# Altium integrated library Actel RTAX-DSP.IntLib: 8 symbols (part 2 of 2)
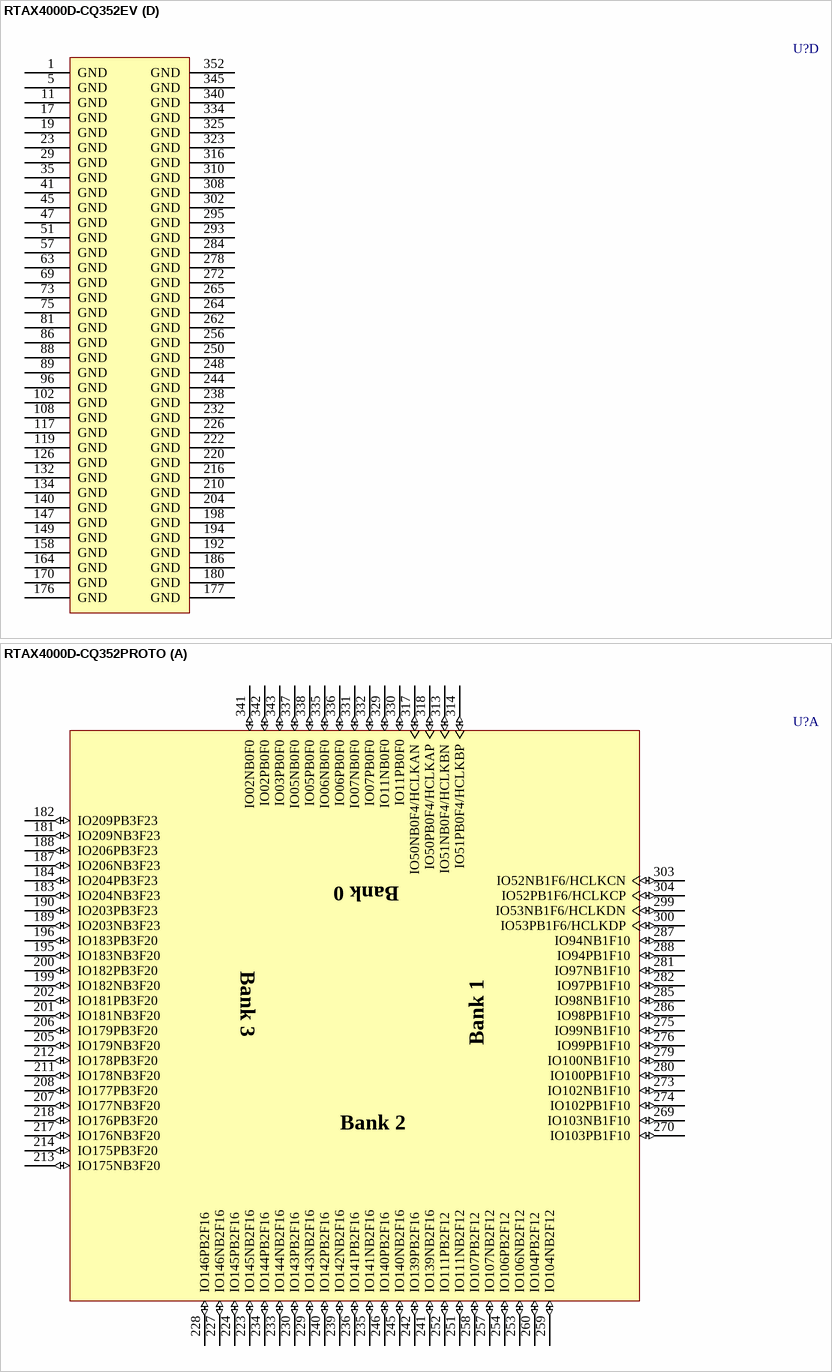
[diagram p24: symbols RTAX4000D-CQ352EV to RTAX4000D-CQ352PROTO]

## RTAX4000D-CQ352EV
designator U?
RTAX-DSP RadTolerant FPGA, 4 Million Equivalent System Gates, 352-Pin CQFP, Standard Speed Grade, Class V; Published: 11-Dec-2009; DatasheetVersion: v0.2, Nov-2009; PackageVersion: ver11.2, Nov-2009; PackageReference: CQ352; Publisher: Altium Limited; PackageDescription: 352-Pin Ceramic Quad Flat Pack (CQFP), Cavity Up without Heat Sink; Code_JEDEC: MO-134-AE; ComponentLink1Description: RTAX-S/SL RadTolerant Datasheet; ComponentLink1URL: http://www.actel.com/documents/RTAXS_DS.pdf; ComponentLink2Description: Package Mechanical Drawings; ComponentLink2URL: http://www.actel.com/documents/PckgMechDrwngs.pdf; ComponentLink3Description: RTAX-DSP Documents; ComponentLink3URL: http://www.actel.com/products/milaero/rtaxdsp/docs.aspx; ComponentLink4Description: Actel.com Home; ComponentLink4URL: http://www.actel.com/
footprint CQ352_N (CQFP, 352-Leads, Body 48x48mm; Pitch 0.5mm, Gullwing Leadform, IPC Medium Density)
footprint CQ352_L (CQFP, 352-Leads, Body 48x48mm; Pitch 0.5mm, Gullwing Leadform, IPC High Density)
footprint CQ352_M (CQFP, 352-Leads, Body 48x48mm; Pitch 0.5mm, Gullwing Leadform, IPC Low Density)
part A pins: 181 IO209NB3F23 (io), 182 IO209PB3F23 (io), 183 IO204NB3F23 (io), 184 IO204PB3F23 (io), 187 IO206NB3F23 (io), 188 IO206PB3F23 (io), 189 IO203NB3F23 (io), 190 IO203PB3F23 (io), 195 IO183NB3F20 (io), 196 IO183PB3F20 (io), 199 IO182NB3F20 (io), 200 IO182PB3F20 (io), 201 IO181NB3F20 (io), 202 IO181PB3F20 (io), 205 IO179NB3F20 (io), 206 IO179PB3F20 (io), 207 IO177NB3F20 (io), 208 IO177PB3F20 (io), 211 IO178NB3F20 (io), 212 IO178PB3F20 (io), 213 IO175NB3F20 (io), 214 IO175PB3F20 (io), 217 IO176NB3F20 (io), 218 IO176PB3F20 (io), 223 IO145NB2F16 (io), 224 IO145PB2F16 (io), 227 IO146NB2F16 (io), 228 IO146PB2F16 (io), 229 IO143NB2F16 (io), 230 IO143PB2F16 (io), 233 IO144NB2F16 (io), 234 IO144PB2F16 (io), 235 IO141NB2F16 (io), 236 IO141PB2F16 (io), 239 IO142NB2F16 (io), 240 IO142PB2F16 (io), 241 IO139NB2F16 (io), 242 IO139PB2F16 (io), 245 IO140NB2F16 (io), 246 IO140PB2F16 (io), 251 IO111NB2F12 (io), 252 IO111PB2F12 (io), 253 IO106NB2F12 (io), 254 IO106PB2F12 (io), 257 IO107NB2F12 (io), 258 IO107PB2F12 (io), 259 IO104NB2F12 (io), 260 IO104PB2F12 (io), 269 IO103NB1F10 (io), 270 IO103PB1F10 (io), 273 IO102NB1F10 (io), 274 IO102PB1F10 (io), 275 IO99NB1F10 (io), 276 IO99PB1F10 (io), 279 IO100NB1F10 (io), 280 IO100PB1F10 (io), 281 IO97NB1F10 (io), 282 IO97PB1F10 (io), 285 IO98NB1F10 (io), 286 IO98PB1F10 (io), 287 IO94NB1F10 (io), 288 IO94PB1F10 (io), 299 IO53NB1F6/HCLKDN (io), 300 IO53PB1F6/HCLKDP (io), 303 IO52NB1F6/HCLKCN (io), 304 IO52PB1F6/HCLKCP (io), 313 IO51NB0F4/HCLKBN (io), 314 IO51PB0F4/HCLKBP (io), 317 IO50NB0F4/HCLKAN (io), 318 IO50PB0F4/HCLKAP (io), 329 IO11NB0F0 (io), 330 IO11PB0F0 (io), 331 IO07NB0F0 (io), 332 IO07PB0F0 (io), 335 IO06NB0F0 (io), 336 IO06PB0F0 (io), 337 IO05NB0F0 (io), 338 IO05PB0F0 (io), 341 IO02NB0F0 (io), 342 IO02PB0F0 (io), 343 IO03PB0F0 (io)
part B pins: 6 IO419NB7F47 (io), 7 IO419PB7F47 (io), 8 IO414NB7F47 (io), 9 IO414PB7F47 (io), 12 IO416NB7F47 (io), 13 IO416PB7F47 (io), 14 IO413NB7F47 (io), 15 IO413PB7F47 (io), 20 IO393NB7F44 (io), 21 IO393PB7F44 (io), 24 IO392NB7F44 (io), 25 IO392PB7F44 (io), 26 IO391NB7F44 (io), 27 IO391PB7F44 (io), 30 IO389NB7F44 (io), 31 IO389PB7F44 (io), 32 IO388NB7F44 (io), 33 IO388PB7F44 (io), 36 IO387NB7F44 (io), 37 IO387PB7F44 (io), 38 IO386NB7F44 (io), 39 IO386PB7F44 (io), 42 IO385NB7F44 (io), 43 IO385PB7F44 (io), 48 IO355NB6F40 (io), 49 IO355PB6F40 (io), 52 IO356NB6F40 (io), 53 IO356PB6F40 (io), 54 IO353NB6F40 (io), 55 IO353PB6F40 (io), 58 IO354NB6F40 (io), 59 IO354PB6F40 (io), 60 IO351NB6F40 (io), 61 IO351PB6F40 (io), 64 IO352NB6F40 (io), 65 IO352PB6F40 (io), 66 IO349NB6F40 (io), 67 IO349PB6F40 (io), 70 IO350NB6F40 (io), 71 IO350PB6F40 (io), 76 IO319NB6F36 (io), 77 IO319PB6F36 (io), 78 IO317NB6F36 (io), 79 IO317PB6F36 (io), 82 IO316NB6F36 (io), 83 IO316PB6F36 (io), 84 IO314PB6F36 (io), 92 IO313NB5F34 (io), 93 IO312NB5F34 (io), 94 IO312PB5F34 (io), 97 IO309NB5F34 (io), 98 IO309PB5F34 (io), 99 IO310NB5F34 (io), 100 IO310PB5F34 (io), 103 IO307NB5F34 (io), 104 IO307PB5F34 (io), 105 IO308NB5F34 (io), 106 IO308PB5F34 (io), 109 IO305NB5F34 (io), 110 IO305PB5F34 (io), 111 IO304NB5F34 (io), 112 IO304PB5F34 (io), 123 IO263NB5F30/CLKHN (io), 124 IO263PB5F30/CLKHP (io), 127 IO262NB5F30/CLKGN (io), 128 IO262PB5F30/CLKGP (io), 137 IO261NB4F28/CLKFN (io), 138 IO261PB4F28/CLKFP (io), 141 IO260NB4F28/CLKEN (io), 142 IO260PB4F28/CLKEP (io), 153 IO219NB4F24 (io), 154 IO219PB4F24 (io), 155 IO216NB4F24 (io), 156 IO216PB4F24 (io), 159 IO217NB4F24 (io), 160 IO217PB4F24 (io), 161 IO214NB4F24 (io), 162 IO214PB4F24 (io), 165 IO215NB4F24 (io), 166 IO215PB4F24 (io), 167 IO210NB4F24 (io), 168 IO210PB4F24 (io), 171 IO213NB4F24 (io), 172 IO213PB4F24 (io), 173 IO211NB4F24 (io)
part C pins: 2 VCCDA (power), 3 VCCA (power), 4 VCCA (power), 10 VCCIB7 (power), 16 VCCDA (power), 18 VCCA (power), 22 VCCIB7 (power), 28 VCCIB7 (power), 34 VCCA (power), 40 VCCIB7 (power), 44 VCCA (power), 46 VCCDA (power), 50 VCCIB6 (power), 56 VCCA (power), 62 VCCIB6 (power), 68 VCCIB6 (power), 72 VCCA (power), 74 VCCDA (power), 80 VCCIB6 (power), 85 VCCA (power), 87 VCCA (power), 90 VCCDA (power), 91 VCCDA (power), 95 VCCIB5 (power), 101 VCCA (power), 107 VCCIB5 (power), 113 VCCDA (power), 114 VCCDA (power), 115 VCCDA (power), 116 VCCA (power), 118 VCCDA (power), 120 VCCDA (power), 121 VCCDA (power), 122 VCCDA (power), 125 VCCIB5 (power), 129 VCCA (power), 130 VCCDA (power), 131 VCCA (power), 133 VCCDA (power), 135 PRD (out), 136 PRC (out), 139 VCCIB4 (power), 143 VCCDA (power), 144 VCCDA (power), 145 VCCDA (power), 146 VCCDA (power), 148 VCCA (power), 150 VCCDA (power), 151 VCCDA (power), 152 VCCDA (power), 157 VCCIB4 (power), 163 VCCA (power), 169 VCCIB4 (power), 174 VCCDA (power), 175 VCCA (power), 178 VCCDA (power), 179 VCCA (power), 185 VCCIB3 (power), 191 VCCDA (power), 193 VCCA (power), 197 VCCIB3 (power), 203 VCCIB3 (power), 209 VCCA (power), 215 VCCIB3 (power), 219 VCCA (power), 221 VCCDA (power), 225 VCCIB2 (power), 231 VCCA (power), 237 VCCIB2 (power), 243 VCCIB2 (power), 247 VCCA (power), 249 VCCDA (power), 255 VCCIB2 (power), 261 VCCA (power), 263 VCCA (power), 266 VCCDA (power), 267 VPUMP (power), 268 VCCDA (power), 271 VCCIB1 (power), 277 VCCA (power), 283 VCCIB1 (power), 289 VCCDA (power), 290 VCCDA (power), 291 VCCDA (power), 292 VCCA (power), 294 VCCDA (power), 296 VCCDA (power), 297 VCCDA (power), 298 VCCDA (power), 301 VCCIB1 (power), 305 VCCA (power), 306 VCCDA (power), 307 VCCA (power), 309 VCCDA (power), 311 PRB (out), 312 PRA (out), 315 VCCIB0 (power), 319 VCCDA (power), 320 VCCDA (power), 321 VCCDA (power), 322 VCCDA (power), 324 VCCA (power), 326 VCCDA (power), 327 VCCDA (power), 328 VCCDA (power), 333 VCCIB0 (power), 339 VCCA (power), 344 VCCIB0 (power), 346 VCCDA (power), 347 TDO (hiz), 348 TDI (in), 349 TCK (in), 350 TMS (in), 351 ~{TRST} (in)
part D pins: 1 GND (power), 5 GND (power), 11 GND (power), 17 GND (power), 19 GND (power), 23 GND (power), 29 GND (power), 35 GND (power), 41 GND (power), 45 GND (power), 47 GND (power), 51 GND (power), 57 GND (power), 63 GND (power), 69 GND (power), 73 GND (power), 75 GND (power), 81 GND (power), 86 GND (power), 88 GND (power), 89 GND (power), 96 GND (power), 102 GND (power), 108 GND (power), 117 GND (power), 119 GND (power), 126 GND (power), 132 GND (power), 134 GND (power), 140 GND (power), 147 GND (power), 149 GND (power), 158 GND (power), 164 GND (power), 170 GND (power), 176 GND (power), 177 GND (power), 180 GND (power), 186 GND (power), 192 GND (power), 194 GND (power), 198 GND (power), 204 GND (power), 210 GND (power), 216 GND (power), 220 GND (power), 222 GND (power), 226 GND (power), 232 GND (power), 238 GND (power), 244 GND (power), 248 GND (power), 250 GND (power), 256 GND (power), 262 GND (power), 264 GND (power), 265 GND (power), 272 GND (power), 278 GND (power), 284 GND (power), 293 GND (power), 295 GND (power), 302 GND (power), 308 GND (power), 310 GND (power), 316 GND (power), 323 GND (power), 325 GND (power), 334 GND (power), 340 GND (power), 345 GND (power), 352 GND (power)
part A text: Bank 0; Bank 3; Bank 1; Bank 2
part B text: Bank 4; Bank 7; Bank 5; Bank 6

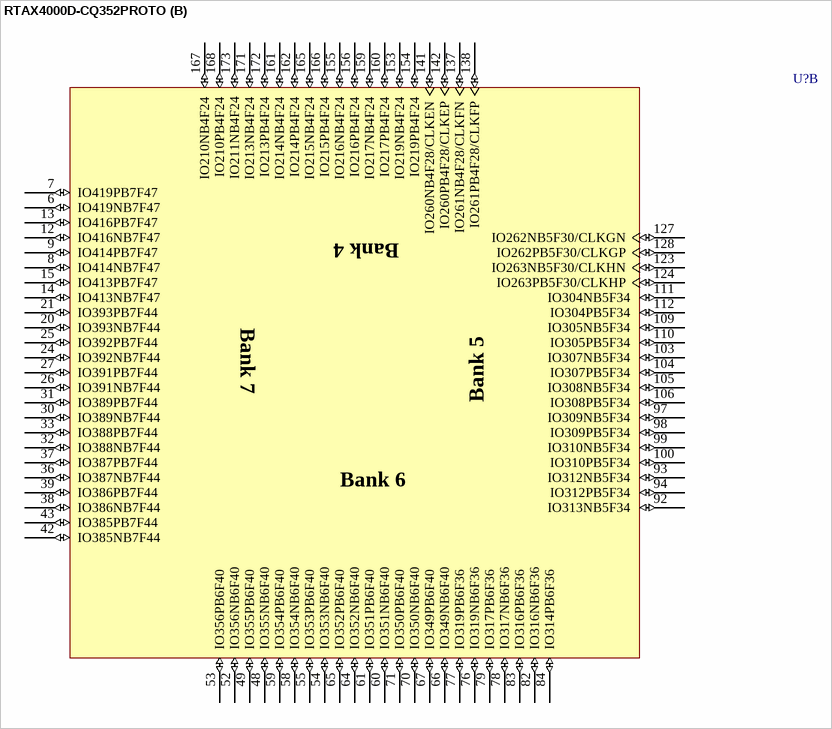
[diagram p21: symbol RTAX4000D-CQ352PROTO]

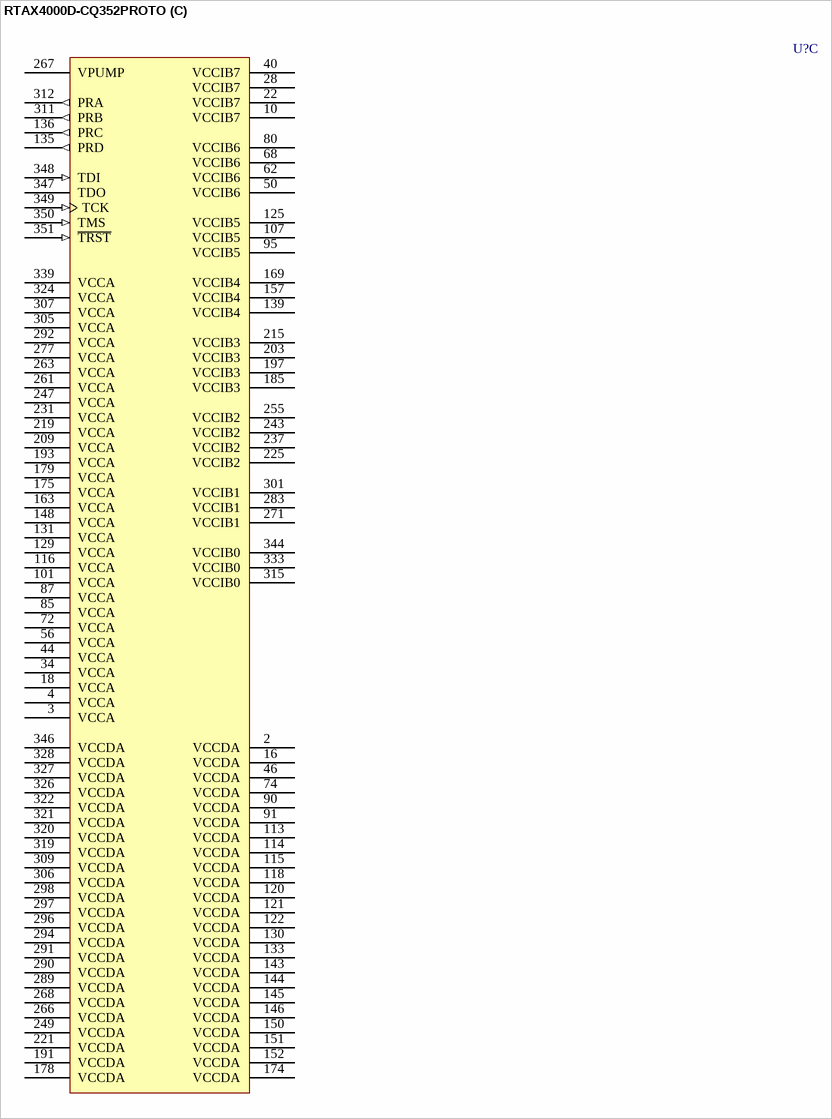
[diagram p22: symbol RTAX4000D-CQ352PROTO]

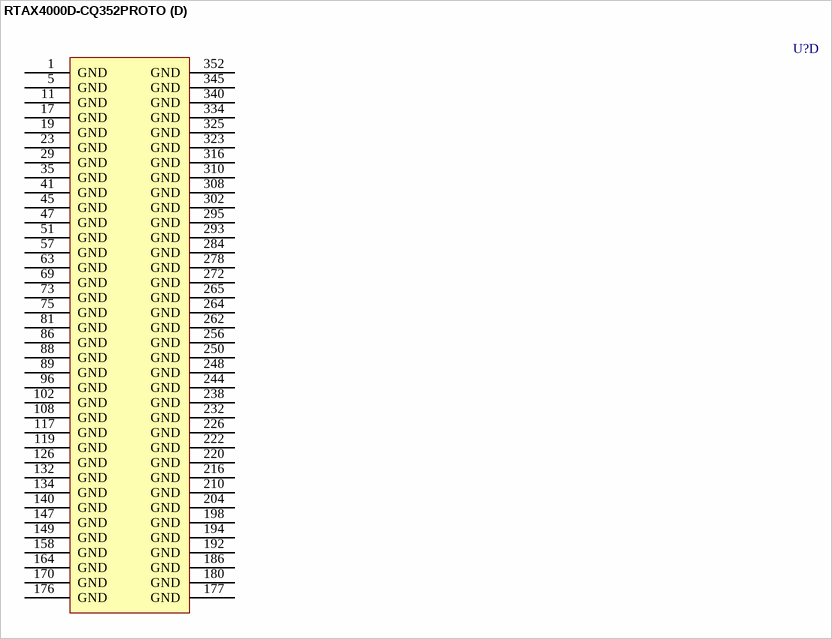
[diagram p23: symbol RTAX4000D-CQ352PROTO]

## RTAX4000D-CQ352PROTO
designator U?
RTAX-DSP RadTolerant FPGA, 4 Million Equivalent System Gates, 352-Pin CQFP, Standard Speed Grade, Prototype Unit; Published: 11-Dec-2009; DatasheetVersion: v0.2, Nov-2009; PackageVersion: ver11.2, Nov-2009; PackageReference: CQ352; Publisher: Altium Limited; PackageDescription: 352-Pin Ceramic Quad Flat Pack (CQFP), Cavity Up without Heat Sink; Code_JEDEC: MO-134-AE; ComponentLink1Description: RTAX-S/SL RadTolerant Datasheet; ComponentLink1URL: http://www.actel.com/documents/RTAXS_DS.pdf; ComponentLink2Description: Package Mechanical Drawings; ComponentLink2URL: http://www.actel.com/documents/PckgMechDrwngs.pdf; ComponentLink3Description: RTAX-DSP Documents; ComponentLink3URL: http://www.actel.com/products/milaero/rtaxdsp/docs.aspx; ComponentLink4Description: Actel.com Home; ComponentLink4URL: http://www.actel.com/
footprint CQ352_N (CQFP, 352-Leads, Body 48x48mm; Pitch 0.5mm, Gullwing Leadform, IPC Medium Density)
footprint CQ352_L (CQFP, 352-Leads, Body 48x48mm; Pitch 0.5mm, Gullwing Leadform, IPC High Density)
footprint CQ352_M (CQFP, 352-Leads, Body 48x48mm; Pitch 0.5mm, Gullwing Leadform, IPC Low Density)
part A pins: 181 IO209NB3F23 (io), 182 IO209PB3F23 (io), 183 IO204NB3F23 (io), 184 IO204PB3F23 (io), 187 IO206NB3F23 (io), 188 IO206PB3F23 (io), 189 IO203NB3F23 (io), 190 IO203PB3F23 (io), 195 IO183NB3F20 (io), 196 IO183PB3F20 (io), 199 IO182NB3F20 (io), 200 IO182PB3F20 (io), 201 IO181NB3F20 (io), 202 IO181PB3F20 (io), 205 IO179NB3F20 (io), 206 IO179PB3F20 (io), 207 IO177NB3F20 (io), 208 IO177PB3F20 (io), 211 IO178NB3F20 (io), 212 IO178PB3F20 (io), 213 IO175NB3F20 (io), 214 IO175PB3F20 (io), 217 IO176NB3F20 (io), 218 IO176PB3F20 (io), 223 IO145NB2F16 (io), 224 IO145PB2F16 (io), 227 IO146NB2F16 (io), 228 IO146PB2F16 (io), 229 IO143NB2F16 (io), 230 IO143PB2F16 (io), 233 IO144NB2F16 (io), 234 IO144PB2F16 (io), 235 IO141NB2F16 (io), 236 IO141PB2F16 (io), 239 IO142NB2F16 (io), 240 IO142PB2F16 (io), 241 IO139NB2F16 (io), 242 IO139PB2F16 (io), 245 IO140NB2F16 (io), 246 IO140PB2F16 (io), 251 IO111NB2F12 (io), 252 IO111PB2F12 (io), 253 IO106NB2F12 (io), 254 IO106PB2F12 (io), 257 IO107NB2F12 (io), 258 IO107PB2F12 (io), 259 IO104NB2F12 (io), 260 IO104PB2F12 (io), 269 IO103NB1F10 (io), 270 IO103PB1F10 (io), 273 IO102NB1F10 (io), 274 IO102PB1F10 (io), 275 IO99NB1F10 (io), 276 IO99PB1F10 (io), 279 IO100NB1F10 (io), 280 IO100PB1F10 (io), 281 IO97NB1F10 (io), 282 IO97PB1F10 (io), 285 IO98NB1F10 (io), 286 IO98PB1F10 (io), 287 IO94NB1F10 (io), 288 IO94PB1F10 (io), 299 IO53NB1F6/HCLKDN (io), 300 IO53PB1F6/HCLKDP (io), 303 IO52NB1F6/HCLKCN (io), 304 IO52PB1F6/HCLKCP (io), 313 IO51NB0F4/HCLKBN (io), 314 IO51PB0F4/HCLKBP (io), 317 IO50NB0F4/HCLKAN (io), 318 IO50PB0F4/HCLKAP (io), 329 IO11NB0F0 (io), 330 IO11PB0F0 (io), 331 IO07NB0F0 (io), 332 IO07PB0F0 (io), 335 IO06NB0F0 (io), 336 IO06PB0F0 (io), 337 IO05NB0F0 (io), 338 IO05PB0F0 (io), 341 IO02NB0F0 (io), 342 IO02PB0F0 (io), 343 IO03PB0F0 (io)
part B pins: 6 IO419NB7F47 (io), 7 IO419PB7F47 (io), 8 IO414NB7F47 (io), 9 IO414PB7F47 (io), 12 IO416NB7F47 (io), 13 IO416PB7F47 (io), 14 IO413NB7F47 (io), 15 IO413PB7F47 (io), 20 IO393NB7F44 (io), 21 IO393PB7F44 (io), 24 IO392NB7F44 (io), 25 IO392PB7F44 (io), 26 IO391NB7F44 (io), 27 IO391PB7F44 (io), 30 IO389NB7F44 (io), 31 IO389PB7F44 (io), 32 IO388NB7F44 (io), 33 IO388PB7F44 (io), 36 IO387NB7F44 (io), 37 IO387PB7F44 (io), 38 IO386NB7F44 (io), 39 IO386PB7F44 (io), 42 IO385NB7F44 (io), 43 IO385PB7F44 (io), 48 IO355NB6F40 (io), 49 IO355PB6F40 (io), 52 IO356NB6F40 (io), 53 IO356PB6F40 (io), 54 IO353NB6F40 (io), 55 IO353PB6F40 (io), 58 IO354NB6F40 (io), 59 IO354PB6F40 (io), 60 IO351NB6F40 (io), 61 IO351PB6F40 (io), 64 IO352NB6F40 (io), 65 IO352PB6F40 (io), 66 IO349NB6F40 (io), 67 IO349PB6F40 (io), 70 IO350NB6F40 (io), 71 IO350PB6F40 (io), 76 IO319NB6F36 (io), 77 IO319PB6F36 (io), 78 IO317NB6F36 (io), 79 IO317PB6F36 (io), 82 IO316NB6F36 (io), 83 IO316PB6F36 (io), 84 IO314PB6F36 (io), 92 IO313NB5F34 (io), 93 IO312NB5F34 (io), 94 IO312PB5F34 (io), 97 IO309NB5F34 (io), 98 IO309PB5F34 (io), 99 IO310NB5F34 (io), 100 IO310PB5F34 (io), 103 IO307NB5F34 (io), 104 IO307PB5F34 (io), 105 IO308NB5F34 (io), 106 IO308PB5F34 (io), 109 IO305NB5F34 (io), 110 IO305PB5F34 (io), 111 IO304NB5F34 (io), 112 IO304PB5F34 (io), 123 IO263NB5F30/CLKHN (io), 124 IO263PB5F30/CLKHP (io), 127 IO262NB5F30/CLKGN (io), 128 IO262PB5F30/CLKGP (io), 137 IO261NB4F28/CLKFN (io), 138 IO261PB4F28/CLKFP (io), 141 IO260NB4F28/CLKEN (io), 142 IO260PB4F28/CLKEP (io), 153 IO219NB4F24 (io), 154 IO219PB4F24 (io), 155 IO216NB4F24 (io), 156 IO216PB4F24 (io), 159 IO217NB4F24 (io), 160 IO217PB4F24 (io), 161 IO214NB4F24 (io), 162 IO214PB4F24 (io), 165 IO215NB4F24 (io), 166 IO215PB4F24 (io), 167 IO210NB4F24 (io), 168 IO210PB4F24 (io), 171 IO213NB4F24 (io), 172 IO213PB4F24 (io), 173 IO211NB4F24 (io)
part C pins: 2 VCCDA (power), 3 VCCA (power), 4 VCCA (power), 10 VCCIB7 (power), 16 VCCDA (power), 18 VCCA (power), 22 VCCIB7 (power), 28 VCCIB7 (power), 34 VCCA (power), 40 VCCIB7 (power), 44 VCCA (power), 46 VCCDA (power), 50 VCCIB6 (power), 56 VCCA (power), 62 VCCIB6 (power), 68 VCCIB6 (power), 72 VCCA (power), 74 VCCDA (power), 80 VCCIB6 (power), 85 VCCA (power), 87 VCCA (power), 90 VCCDA (power), 91 VCCDA (power), 95 VCCIB5 (power), 101 VCCA (power), 107 VCCIB5 (power), 113 VCCDA (power), 114 VCCDA (power), 115 VCCDA (power), 116 VCCA (power), 118 VCCDA (power), 120 VCCDA (power), 121 VCCDA (power), 122 VCCDA (power), 125 VCCIB5 (power), 129 VCCA (power), 130 VCCDA (power), 131 VCCA (power), 133 VCCDA (power), 135 PRD (out), 136 PRC (out), 139 VCCIB4 (power), 143 VCCDA (power), 144 VCCDA (power), 145 VCCDA (power), 146 VCCDA (power), 148 VCCA (power), 150 VCCDA (power), 151 VCCDA (power), 152 VCCDA (power), 157 VCCIB4 (power), 163 VCCA (power), 169 VCCIB4 (power), 174 VCCDA (power), 175 VCCA (power), 178 VCCDA (power), 179 VCCA (power), 185 VCCIB3 (power), 191 VCCDA (power), 193 VCCA (power), 197 VCCIB3 (power), 203 VCCIB3 (power), 209 VCCA (power), 215 VCCIB3 (power), 219 VCCA (power), 221 VCCDA (power), 225 VCCIB2 (power), 231 VCCA (power), 237 VCCIB2 (power), 243 VCCIB2 (power), 247 VCCA (power), 249 VCCDA (power), 255 VCCIB2 (power), 261 VCCA (power), 263 VCCA (power), 266 VCCDA (power), 267 VPUMP (power), 268 VCCDA (power), 271 VCCIB1 (power), 277 VCCA (power), 283 VCCIB1 (power), 289 VCCDA (power), 290 VCCDA (power), 291 VCCDA (power), 292 VCCA (power), 294 VCCDA (power), 296 VCCDA (power), 297 VCCDA (power), 298 VCCDA (power), 301 VCCIB1 (power), 305 VCCA (power), 306 VCCDA (power), 307 VCCA (power), 309 VCCDA (power), 311 PRB (out), 312 PRA (out), 315 VCCIB0 (power), 319 VCCDA (power), 320 VCCDA (power), 321 VCCDA (power), 322 VCCDA (power), 324 VCCA (power), 326 VCCDA (power), 327 VCCDA (power), 328 VCCDA (power), 333 VCCIB0 (power), 339 VCCA (power), 344 VCCIB0 (power), 346 VCCDA (power), 347 TDO (hiz), 348 TDI (in), 349 TCK (in), 350 TMS (in), 351 ~{TRST} (in)
part D pins: 1 GND (power), 5 GND (power), 11 GND (power), 17 GND (power), 19 GND (power), 23 GND (power), 29 GND (power), 35 GND (power), 41 GND (power), 45 GND (power), 47 GND (power), 51 GND (power), 57 GND (power), 63 GND (power), 69 GND (power), 73 GND (power), 75 GND (power), 81 GND (power), 86 GND (power), 88 GND (power), 89 GND (power), 96 GND (power), 102 GND (power), 108 GND (power), 117 GND (power), 119 GND (power), 126 GND (power), 132 GND (power), 134 GND (power), 140 GND (power), 147 GND (power), 149 GND (power), 158 GND (power), 164 GND (power), 170 GND (power), 176 GND (power), 177 GND (power), 180 GND (power), 186 GND (power), 192 GND (power), 194 GND (power), 198 GND (power), 204 GND (power), 210 GND (power), 216 GND (power), 220 GND (power), 222 GND (power), 226 GND (power), 232 GND (power), 238 GND (power), 244 GND (power), 248 GND (power), 250 GND (power), 256 GND (power), 262 GND (power), 264 GND (power), 265 GND (power), 272 GND (power), 278 GND (power), 284 GND (power), 293 GND (power), 295 GND (power), 302 GND (power), 308 GND (power), 310 GND (power), 316 GND (power), 323 GND (power), 325 GND (power), 334 GND (power), 340 GND (power), 345 GND (power), 352 GND (power)
part A text: Bank 0; Bank 3; Bank 1; Bank 2
part B text: Bank 4; Bank 7; Bank 5; Bank 6